# Altium footprint library UC-PCB.PcbLib: 145 footprints (part 1 of 10)
Each footprint in its own frame and in the unit in brackets; x right, y up, seen from the top. Pads: shape width x height; smd on the part's side, far side on the other; paste and mask are expansions set on the pad; w line width, h text height; cw(c..) or ccw(c..) is an arc to the next point about the centre after c.
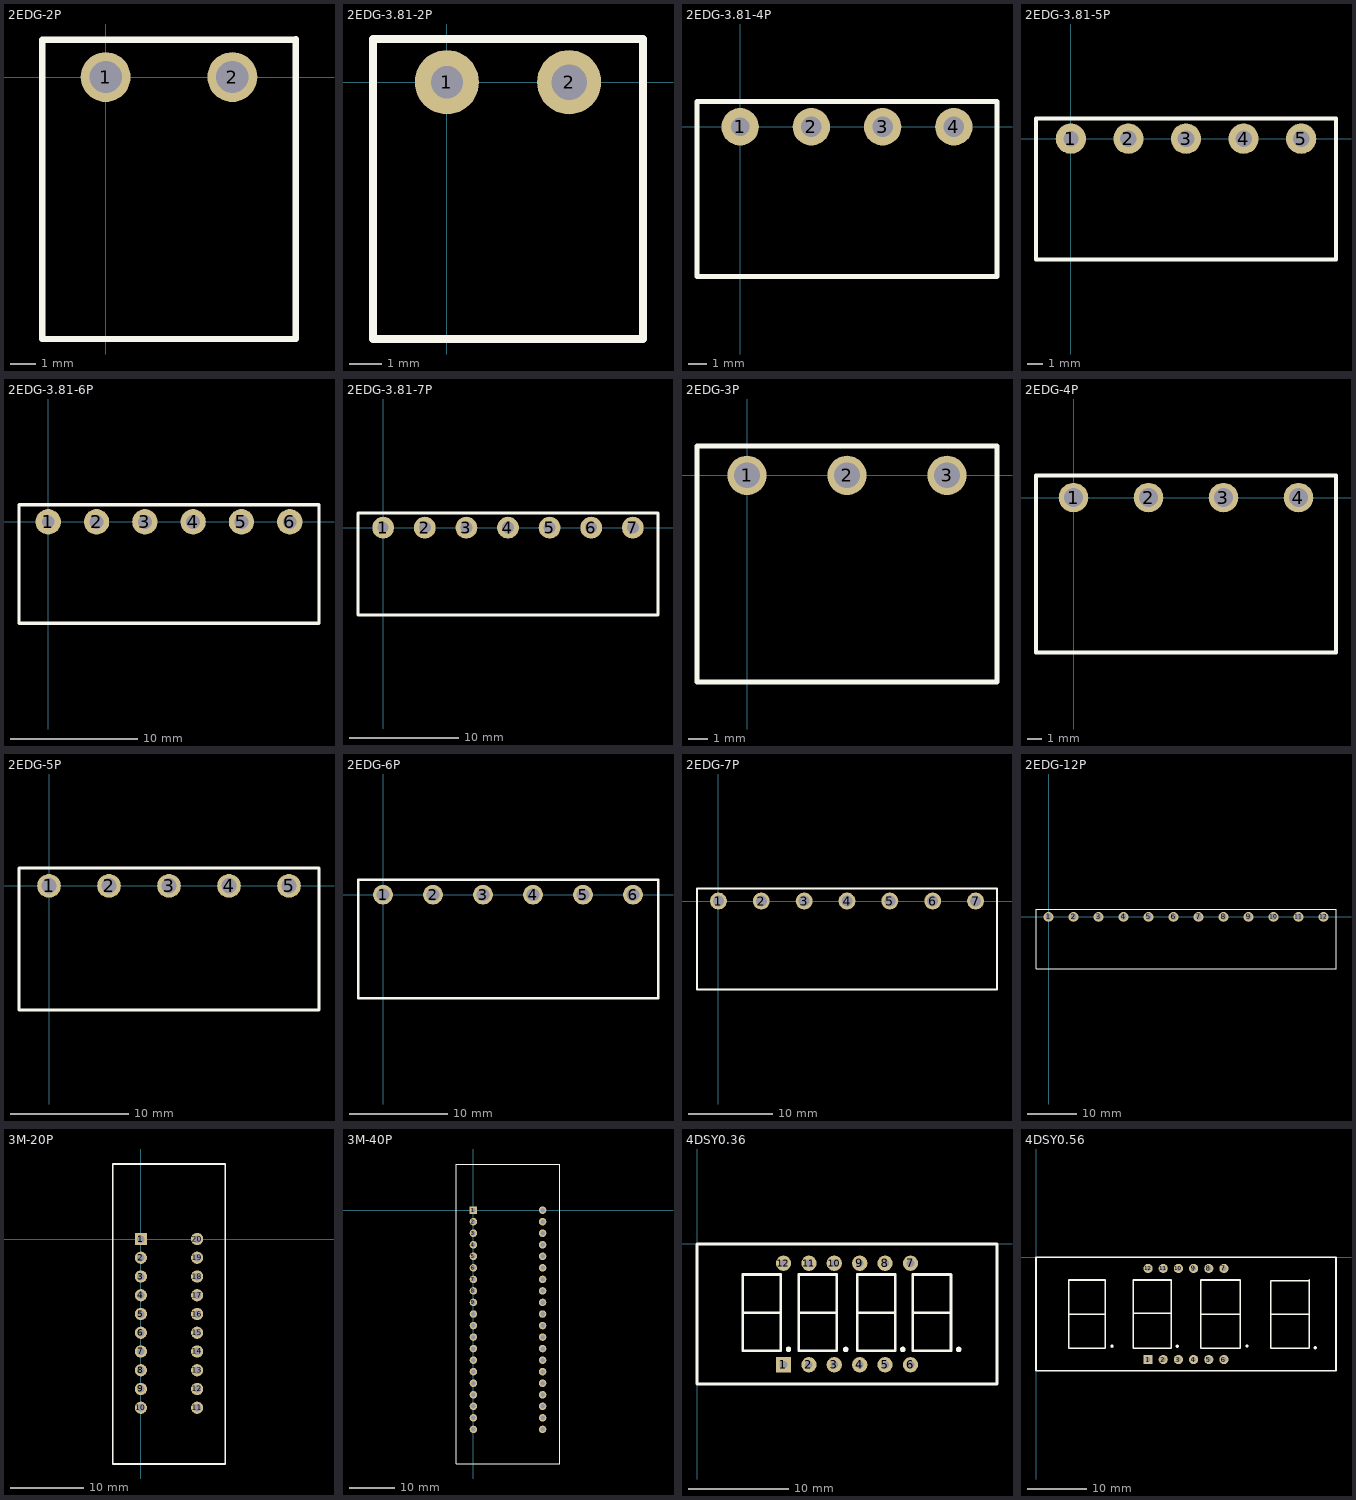
[diagram p0: the footprints below, top view; thin cyan lines are the x and y axes]

## 2EDG-2P [mm]
pads (2):
  round 2 hole 1.3: 1(0,0) 2(5.08,0)
Top Overlay:
  lines w0.254: 7.62,-10.5 -2.54,-10.5 -2.54,1.5 7.62,1.5 ; 7.62,-10.476 7.62,1.524

## 2EDG-3.81-2P [mm]
pads (2):
  round 2 hole 1: 1(0,0)
  round 2 hole 1.1: 2(3.81,0)
Top Overlay:
  lines w0.254: -2.305,-8 -2.305,1.346 6.115,1.346 6.115,-8 -2.305,-8

## 2EDG-3.81-4P [mm]
pads (4):
  round 2 hole 1: 1(0,0)
  round 2 hole 1.1: 2(3.81,0) 3(7.62,0) 4(11.43,0)
Top Overlay:
  lines w0.254: -2.305,-8 13.735,-8 13.735,1.346 -2.305,1.346 -2.305,-8

## 2EDG-3.81-5P [mm]
pads (5):
  round 2 hole 1: 1(0,0)
  round 2 hole 1.1: 2(3.81,0) 3(7.62,0) 4(11.43,0) 5(15.24,0)
Top Overlay:
  lines w0.254: -2.305,-8 -2.305,1.346 17.545,1.346 17.545,-8 -2.305,-8

## 2EDG-3.81-6P [mm]
pads (6):
  round 2 hole 1: 1(0,0)
  round 2 hole 1.1: 2(3.81,0) 3(7.62,0) 4(11.43,0) 5(15.24,0) 6(19.05,0)
Top Overlay:
  lines w0.254: -2.305,-8 -2.305,1.346 21.355,1.346 21.355,-8 -2.305,-8

## 2EDG-3.81-7P [mm]
pads (7):
  round 2 hole 1: 1(0,0)
  round 2 hole 1.1: 2(3.81,0) 3(7.62,0) 4(11.43,0) 5(15.24,0) 6(19.05,0) 7(22.86,0)
Top Overlay:
  lines w0.254: -2.305,-8 25.165,-8 25.165,1.346 -2.305,1.346 -2.305,-8

## 2EDG-3P [mm]
pads (3):
  round 2 hole 1.3: 1(0,0) 2(5.08,0) 3(10.16,0)
Top Overlay:
  lines w0.254: -2.54,-10.5 -2.54,1.5 12.7,1.5 12.7,-10.5 -2.54,-10.5

## 2EDG-4P [mm]
pads (4):
  round 2 hole 1.3: 1(0,0) 2(5.08,0) 3(10.16,0) 4(15.24,0)
Top Overlay:
  lines w0.254: -2.54,-10.5 17.78,-10.5 17.78,1.5 -2.54,1.5 -2.54,-10.5

## 2EDG-5P [mm]
pads (5):
  round 2 hole 1.3: 1(0,0) 2(5.08,0) 3(10.16,0) 4(15.24,0) 5(20.32,0)
Top Overlay:
  lines w0.254: -2.54,-10.5 -2.54,1.5 22.86,1.5 22.86,-10.5 -2.54,-10.5

## 2EDG-6P [mm]
pads (6):
  round 2 hole 1.3: 1(0,0) 2(5.08,0) 3(10.16,0) 4(15.24,0) 5(20.32,0) 6(25.4,0)
Top Overlay:
  lines w0.254: -2.54,-10.5 -2.54,1.5 27.94,1.5 27.94,-10.5 -2.54,-10.5

## 2EDG-7P [mm]
pads (7):
  round 2 hole 1.3: 1(0,0) 2(5.08,0) 3(10.16,0) 4(15.24,0) 5(20.32,0) 6(25.4,0) 7(30.48,0)
Top Overlay:
  lines w0.254: -2.54,-10.5 33.02,-10.5 33.02,1.5 -2.54,1.5 -2.54,-10.5

## 2EDG-12P [mm]
pads (12):
  round 2 hole 1.3: 1(0,0) 2(5.08,0) 3(10.16,0) 4(15.24,0) 5(20.32,0) 6(25.4,0) 7(30.48,0) 8(35.56,0) 9(40.64,0) 10(45.72,0) 11(50.8,0) 12(55.88,0)
Top Overlay:
  lines w0.254: -2.54,-10.5 -2.54,1.5 58.42,1.5 58.42,-10.5 -2.54,-10.5

## 3M-20P [mil]
pads (20):
  rect 65x65 hole 40: 1(0,0)
  round 65 hole 40: 2(0,-100) 3(0,-200) 4(0,-300) 5(0,-400) 6(0,-500) 7(0,-600) 8(0,-700) 9(0,-800) 10(0,-900) 11(300,-900) 12(300,-800) 13(300,-700) 14(300,-600) 15(300,-500) 16(300,-400) 17(300,-300) 18(300,-200) 19(300,-100) 20(300,0)
Top Overlay:
  lines w10: -150,-1200 450,-1200 450,400 -150,400 -150,-1200

## 3M-40P [mil]
pads (40):
  rect 65x65 hole 40: 1(0,0)
  round 65 hole 40: 2(0,-100) 3(0,-200) 4(0,-300) 5(0,-400) 6(0,-500) 7(0,-600) 8(0,-700) 9(0,-800) 10(0,-900) 11(0,-1000) 12(0,-1100) 13(0,-1200) 14(0,-1300) 15(0,-1400) 16(0,-1500) 17(0,-1600) 18(0,-1700) 19(0,-1800) 20(0,-1900) 21(600,-1900) 22(600,-1800) 23(600,-1700) 24(600,-1600) 25(600,-1500) 26(600,-1400) 27(600,-1300) 28(600,-1200) 29(600,-1100) 30(600,-1000) 31(600,-900) 32(600,-800) 33(600,-700) 34(600,-600) 35(600,-500) 36(600,-400) 37(600,-300) 38(600,-200) 39(600,-100) 40(600,0)
Top Overlay:
  lines w10: -150,-2200 750,-2200 750,400 -150,400 -150,-2200

## 4DSY0.36 [mil] "0.36英寸4位数码管"
pads (12):
  rect 60x60 hole 30: 1(340.55,-475.59)
  round 60 hole 30: 2(440.55,-475.59) 3(540.55,-475.59) 4(640.55,-475.59) 5(740.55,-475.59) 6(840.55,-475.59) 7(840.55,-75.59) 8(740.55,-75.59) 9(640.55,-75.59) 10(540.55,-75.59) 11(440.55,-75.59) 12(340.55,-75.59)
Top Overlay:
  circle w10: c1030.34,-415 r5.66
  circle w10: c810.34,-415 r5.66
  circle w10: c585.34,-415 r5.66
  circle w10: c360.34,-415 r5.66
  lines w10: 180,-270 330,-270 ; 400,-270 550,-270 ; 630,-270 780,-270 ; 850,-270 1000,-270 ; 0,-551.18 0,0 1181.1,0 1181.1,-551.18 0,-551.18 ; 180,-420 330,-420 330,-120 180,-120 180,-420 ; 400,-420 550,-420 550,-120 400,-120 400,-420 ; 630,-420 780,-420 780,-120 630,-120 630,-420 ; 850,-420 1000,-420 1000,-120 850,-120 850,-420

## 4DSY0.56 [mil] "0.56英寸4位数码管"
pads (12):
  rect 60x60 hole 35: 1(738.19,-674.02)
  round 60 hole 35: 2(838.19,-674.02) 3(938.19,-674.02) 4(1038.19,-674.02) 5(1138.19,-674.02) 6(1238.19,-674.02) 7(1238.19,-74.02) 8(1138.19,-74.02) 9(1038.19,-74.02) 10(938.19,-74.02) 11(838.19,-74.02) 12(738.19,-74.02)
Top Overlay:
  circle w10: c500.34,-586 r5.66
  circle w10: c930.34,-586 r5.66
  circle w10: c1390.34,-585 r5.66
  circle w10: c1839.34,-596 r5.66
  lines w10: 215,-375 455,-375 ; 455,-595 455,-600 ; 640,-370 890,-370 ; 1085,-375 1345,-375 ; 1545,-375 1800,-375 ; 1795,-155 1545,-155 1545,-600 1800,-600 1800,-150 ; 455,-600 455,-150 215,-150 215,-600 455,-600 ; 0,-748.03 0,0 1976.38,0 1976.38,-748.03 0,-748.03 ; 640,-600 890,-600 890,-150 640,-150 640,-600 ; 1085,-600 1085,-150 1345,-150 1345,-600 1085,-600